# Altium integrated library Microchip Power Mgt CPU-System Supervisor.IntLib: 412 symbols (part 9 of 10)
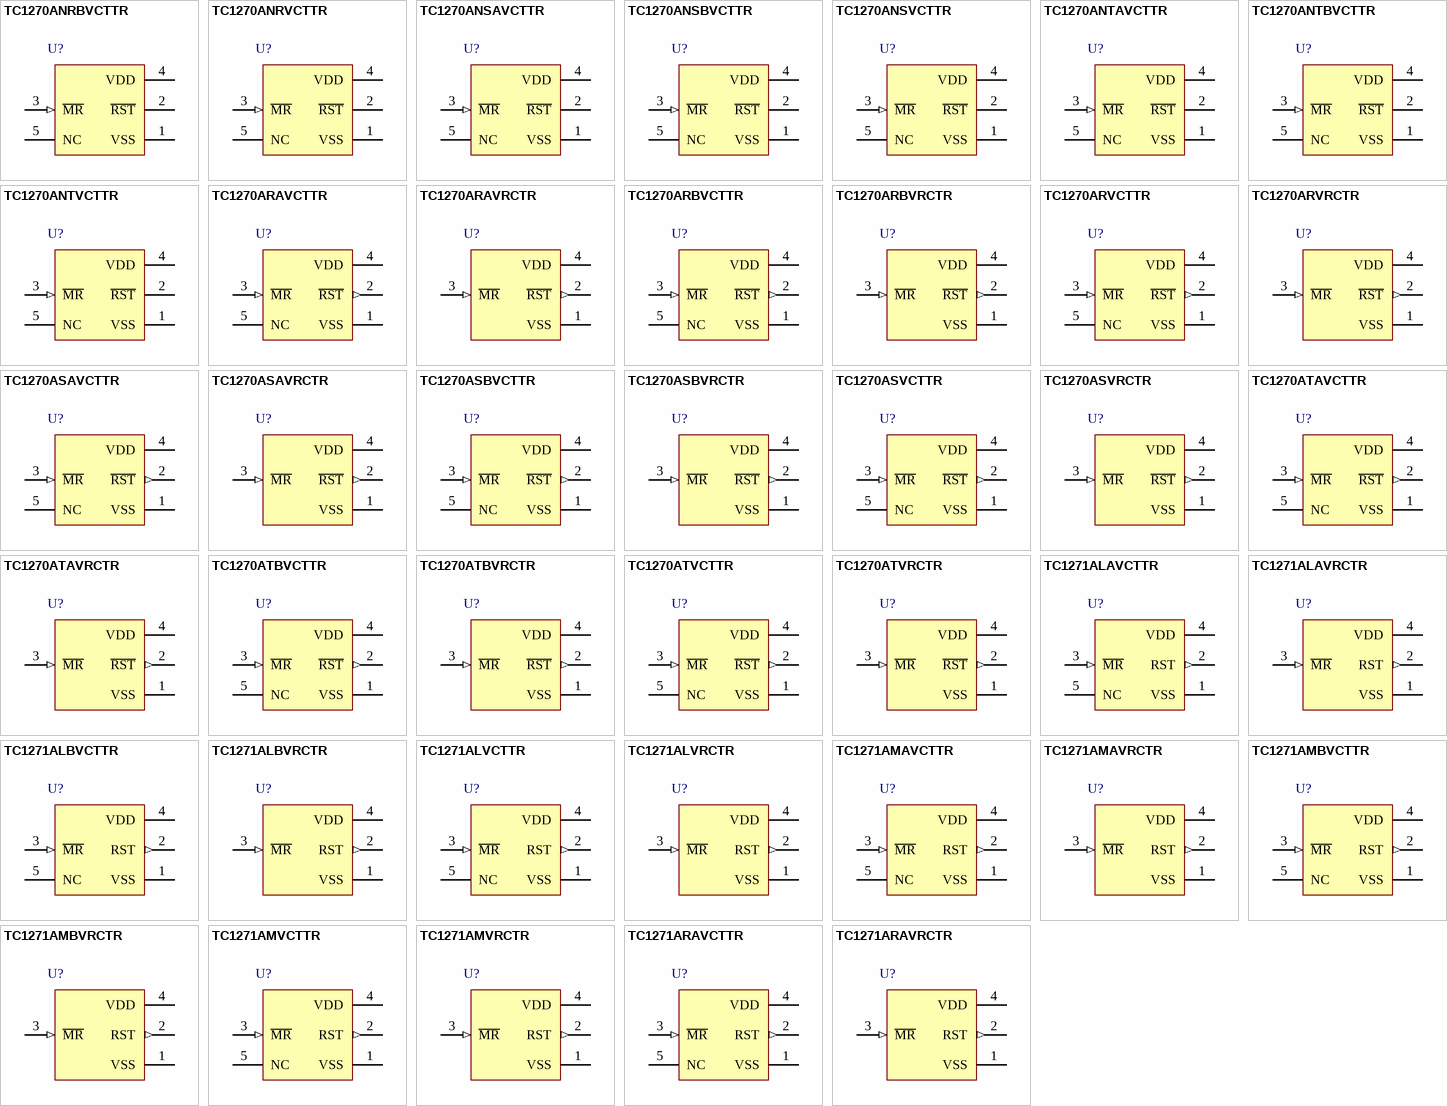
[diagram p18: symbols TC1270ANRBVCTTR to TC1271ARAVRCTR]

## TC1271ALAVRCTR
designator U?
Voltage Supervisor with Manual Reset Input, 4-Pin SOT-143, VTRIP:4.50V (min.) / 4.63V (typ.) / 4.75V (max.), Tape and Reel; Published: 29-Jan-2009; DatasheetVersion: revB, Jun-2007; PackageVersion: revBB, Aug-2009; PackageReference: SOT-143-RC4; Publisher: Altium Limited; PackageDescription: 4-Lead Plastic Small Outline Transistor (RC) [SOT-143]; Code_IPC: SOT143; ComponentLink1Description: Datasheet; ComponentLink1URL: http://ww1.microchip.com/downloads/en/DeviceDoc/22035b.pdf; ComponentLink2Description: Packaging Specification; ComponentLink2URL: http://www.microchip.com/stellent/groups/techpub_sg/documents/packagingspec/en012702.pdf; ComponentLink3Description: Microchip.com Home; ComponentLink3URL: http://www.microchip.com/
footprint SOT-143-RC4_N (SOT143, 4-Leads, Body 2.9x1.3mm, Pitch 1.9mm, Lead Span 2.4mm, IPC Medium Density)
footprint SOT-143-RC4_L (SOT143, 4-Leads, Body 2.9x1.3mm, Pitch 1.9mm, Lead Span 2.4mm, IPC High Density)
footprint SOT-143-RC4_M (SOT143, 4-Leads, Body 2.9x1.3mm, Pitch 1.9mm, Lead Span 2.4mm, IPC Low Density)
pins: 1 VSS (power), 2 RST (out), 3 ~{MR} (in), 4 VDD (power)

## TC1271ALBVCTTR
designator U?
Voltage Supervisor with Manual Reset Input, 5-Pin SOT-23, VTRIP:4.50V (min.) / 4.63V (typ.) / 4.75V (max.), Tape and Reel; Published: 29-Jan-2009; DatasheetVersion: revB, Jun-2007; PackageVersion: revBB, Aug-2009; PackageReference: SOT-23-CT5; Publisher: Altium Limited; PackageDescription: 5-Lead Plastic Small Outline Transistor (CT) [SOT-23]; Code_IPC: SOT23-5; ComponentLink1Description: Datasheet; ComponentLink1URL: http://ww1.microchip.com/downloads/en/DeviceDoc/22035b.pdf; ComponentLink2Description: Packaging Specification; ComponentLink2URL: http://www.microchip.com/stellent/groups/techpub_sg/documents/packagingspec/en012702.pdf; ComponentLink3Description: Microchip.com Home; ComponentLink3URL: http://www.microchip.com/
footprint SOT-23-CT5_N (SOT23, 5-Leads, Body 2.9x1.6mm, Pitch 0.95mm, Lead Span 2.7mm, IPC Medium Density)
footprint SOT-23-CT5_L (SOT23, 5-Leads, Body 2.9x1.6mm, Pitch 0.95mm, Lead Span 2.7mm, IPC High Density)
footprint SOT-23-CT5_M (SOT23, 5-Leads, Body 2.9x1.6mm, Pitch 0.95mm, Lead Span 2.7mm, IPC Low Density)
pins: 1 VSS (power), 2 RST (out), 3 ~{MR} (in), 4 VDD (power), 5 NC

## TC1271ALBVRCTR
designator U?
Voltage Supervisor with Manual Reset Input, 4-Pin SOT-143, VTRIP:4.50V (min.) / 4.63V (typ.) / 4.75V (max.), Tape and Reel; Published: 29-Jan-2009; DatasheetVersion: revB, Jun-2007; PackageVersion: revBB, Aug-2009; PackageReference: SOT-143-RC4; Publisher: Altium Limited; PackageDescription: 4-Lead Plastic Small Outline Transistor (RC) [SOT-143]; Code_IPC: SOT143; ComponentLink1Description: Datasheet; ComponentLink1URL: http://ww1.microchip.com/downloads/en/DeviceDoc/22035b.pdf; ComponentLink2Description: Packaging Specification; ComponentLink2URL: http://www.microchip.com/stellent/groups/techpub_sg/documents/packagingspec/en012702.pdf; ComponentLink3Description: Microchip.com Home; ComponentLink3URL: http://www.microchip.com/
footprint SOT-143-RC4_N (SOT143, 4-Leads, Body 2.9x1.3mm, Pitch 1.9mm, Lead Span 2.4mm, IPC Medium Density)
footprint SOT-143-RC4_L (SOT143, 4-Leads, Body 2.9x1.3mm, Pitch 1.9mm, Lead Span 2.4mm, IPC High Density)
footprint SOT-143-RC4_M (SOT143, 4-Leads, Body 2.9x1.3mm, Pitch 1.9mm, Lead Span 2.4mm, IPC Low Density)
pins: 1 VSS (power), 2 RST (out), 3 ~{MR} (in), 4 VDD (power)

## TC1271ALVCTTR
designator U?
Voltage Supervisor with Manual Reset Input, 5-Pin SOT-23, VTRIP:4.50V (min.) / 4.63V (typ.) / 4.75V (max.), Tape and Reel; Published: 29-Jan-2009; DatasheetVersion: revB, Jun-2007; PackageVersion: revBB, Aug-2009; PackageReference: SOT-23-CT5; Publisher: Altium Limited; PackageDescription: 5-Lead Plastic Small Outline Transistor (CT) [SOT-23]; Supplier 1: Digi-Key; Supplier Part Number 1: TC1271ALVCTTR-ND; Code_IPC: SOT23-5; ComponentLink1Description: Datasheet; ComponentLink1URL: http://ww1.microchip.com/downloads/en/DeviceDoc/22035b.pdf; ComponentLink2Description: Packaging Specification; ComponentLink2URL: http://www.microchip.com/stellent/groups/techpub_sg/documents/packagingspec/en012702.pdf; ComponentLink3Description: Microchip.com Home; ComponentLink3URL: http://www.microchip.com/
footprint SOT-23-CT5_N (SOT23, 5-Leads, Body 2.9x1.6mm, Pitch 0.95mm, Lead Span 2.7mm, IPC Medium Density)
footprint SOT-23-CT5_L (SOT23, 5-Leads, Body 2.9x1.6mm, Pitch 0.95mm, Lead Span 2.7mm, IPC High Density)
footprint SOT-23-CT5_M (SOT23, 5-Leads, Body 2.9x1.6mm, Pitch 0.95mm, Lead Span 2.7mm, IPC Low Density)
pins: 1 VSS (power), 2 RST (out), 3 ~{MR} (in), 4 VDD (power), 5 NC

## TC1271ALVRCTR
designator U?
Voltage Supervisor with Manual Reset Input, 4-Pin SOT-143, VTRIP:4.50V (min.) / 4.63V (typ.) / 4.75V (max.), Tape and Reel; Published: 29-Jan-2009; DatasheetVersion: revB, Jun-2007; PackageVersion: revBB, Aug-2009; PackageReference: SOT-143-RC4; Publisher: Altium Limited; PackageDescription: 4-Lead Plastic Small Outline Transistor (RC) [SOT-143]; Supplier 1: Digi-Key; Supplier Part Number 1: TC1271ALVRCTR-ND; Code_IPC: SOT143; ComponentLink1Description: Datasheet; ComponentLink1URL: http://ww1.microchip.com/downloads/en/DeviceDoc/22035b.pdf; ComponentLink2Description: Packaging Specification; ComponentLink2URL: http://www.microchip.com/stellent/groups/techpub_sg/documents/packagingspec/en012702.pdf; ComponentLink3Description: Microchip.com Home; ComponentLink3URL: http://www.microchip.com/
footprint SOT-143-RC4_N (SOT143, 4-Leads, Body 2.9x1.3mm, Pitch 1.9mm, Lead Span 2.4mm, IPC Medium Density)
footprint SOT-143-RC4_L (SOT143, 4-Leads, Body 2.9x1.3mm, Pitch 1.9mm, Lead Span 2.4mm, IPC High Density)
footprint SOT-143-RC4_M (SOT143, 4-Leads, Body 2.9x1.3mm, Pitch 1.9mm, Lead Span 2.4mm, IPC Low Density)
pins: 1 VSS (power), 2 RST (out), 3 ~{MR} (in), 4 VDD (power)

## TC1271AMAVCTTR
designator U?
Voltage Supervisor with Manual Reset Input, 5-Pin SOT-23, VTRIP:4.25V (min.) / 4.38V (typ.) / 4.50V (max.), Tape and Reel; Published: 29-Jan-2009; DatasheetVersion: revB, Jun-2007; PackageVersion: revBB, Aug-2009; PackageReference: SOT-23-CT5; Publisher: Altium Limited; PackageDescription: 5-Lead Plastic Small Outline Transistor (CT) [SOT-23]; Code_IPC: SOT23-5; ComponentLink1Description: Datasheet; ComponentLink1URL: http://ww1.microchip.com/downloads/en/DeviceDoc/22035b.pdf; ComponentLink2Description: Packaging Specification; ComponentLink2URL: http://www.microchip.com/stellent/groups/techpub_sg/documents/packagingspec/en012702.pdf; ComponentLink3Description: Microchip.com Home; ComponentLink3URL: http://www.microchip.com/
footprint SOT-23-CT5_N (SOT23, 5-Leads, Body 2.9x1.6mm, Pitch 0.95mm, Lead Span 2.7mm, IPC Medium Density)
footprint SOT-23-CT5_L (SOT23, 5-Leads, Body 2.9x1.6mm, Pitch 0.95mm, Lead Span 2.7mm, IPC High Density)
footprint SOT-23-CT5_M (SOT23, 5-Leads, Body 2.9x1.6mm, Pitch 0.95mm, Lead Span 2.7mm, IPC Low Density)
pins: 1 VSS (power), 2 RST (out), 3 ~{MR} (in), 4 VDD (power), 5 NC

## TC1271AMAVRCTR
designator U?
Voltage Supervisor with Manual Reset Input, 4-Pin SOT-143, VTRIP:4.25V (min.) / 4.38V (typ.) / 4.50V (max.), Tape and Reel; Published: 29-Jan-2009; DatasheetVersion: revB, Jun-2007; PackageVersion: revBB, Aug-2009; PackageReference: SOT-143-RC4; Publisher: Altium Limited; PackageDescription: 4-Lead Plastic Small Outline Transistor (RC) [SOT-143]; Code_IPC: SOT143; ComponentLink1Description: Datasheet; ComponentLink1URL: http://ww1.microchip.com/downloads/en/DeviceDoc/22035b.pdf; ComponentLink2Description: Packaging Specification; ComponentLink2URL: http://www.microchip.com/stellent/groups/techpub_sg/documents/packagingspec/en012702.pdf; ComponentLink3Description: Microchip.com Home; ComponentLink3URL: http://www.microchip.com/
footprint SOT-143-RC4_N (SOT143, 4-Leads, Body 2.9x1.3mm, Pitch 1.9mm, Lead Span 2.4mm, IPC Medium Density)
footprint SOT-143-RC4_L (SOT143, 4-Leads, Body 2.9x1.3mm, Pitch 1.9mm, Lead Span 2.4mm, IPC High Density)
footprint SOT-143-RC4_M (SOT143, 4-Leads, Body 2.9x1.3mm, Pitch 1.9mm, Lead Span 2.4mm, IPC Low Density)
pins: 1 VSS (power), 2 RST (out), 3 ~{MR} (in), 4 VDD (power)

## TC1271AMBVCTTR
designator U?
Voltage Supervisor with Manual Reset Input, 5-Pin SOT-23, VTRIP:4.25V (min.) / 4.38V (typ.) / 4.50V (max.), Tape and Reel; Published: 29-Jan-2009; DatasheetVersion: revB, Jun-2007; PackageVersion: revBB, Aug-2009; PackageReference: SOT-23-CT5; Publisher: Altium Limited; PackageDescription: 5-Lead Plastic Small Outline Transistor (CT) [SOT-23]; Code_IPC: SOT23-5; ComponentLink1Description: Datasheet; ComponentLink1URL: http://ww1.microchip.com/downloads/en/DeviceDoc/22035b.pdf; ComponentLink2Description: Packaging Specification; ComponentLink2URL: http://www.microchip.com/stellent/groups/techpub_sg/documents/packagingspec/en012702.pdf; ComponentLink3Description: Microchip.com Home; ComponentLink3URL: http://www.microchip.com/
footprint SOT-23-CT5_N (SOT23, 5-Leads, Body 2.9x1.6mm, Pitch 0.95mm, Lead Span 2.7mm, IPC Medium Density)
footprint SOT-23-CT5_L (SOT23, 5-Leads, Body 2.9x1.6mm, Pitch 0.95mm, Lead Span 2.7mm, IPC High Density)
footprint SOT-23-CT5_M (SOT23, 5-Leads, Body 2.9x1.6mm, Pitch 0.95mm, Lead Span 2.7mm, IPC Low Density)
pins: 1 VSS (power), 2 RST (out), 3 ~{MR} (in), 4 VDD (power), 5 NC

## TC1271AMBVRCTR
designator U?
Voltage Supervisor with Manual Reset Input, 4-Pin SOT-143, VTRIP:4.25V (min.) / 4.38V (typ.) / 4.50V (max.), Tape and Reel; Published: 29-Jan-2009; DatasheetVersion: revB, Jun-2007; PackageVersion: revBB, Aug-2009; PackageReference: SOT-143-RC4; Publisher: Altium Limited; PackageDescription: 4-Lead Plastic Small Outline Transistor (RC) [SOT-143]; Code_IPC: SOT143; ComponentLink1Description: Datasheet; ComponentLink1URL: http://ww1.microchip.com/downloads/en/DeviceDoc/22035b.pdf; ComponentLink2Description: Packaging Specification; ComponentLink2URL: http://www.microchip.com/stellent/groups/techpub_sg/documents/packagingspec/en012702.pdf; ComponentLink3Description: Microchip.com Home; ComponentLink3URL: http://www.microchip.com/
footprint SOT-143-RC4_N (SOT143, 4-Leads, Body 2.9x1.3mm, Pitch 1.9mm, Lead Span 2.4mm, IPC Medium Density)
footprint SOT-143-RC4_L (SOT143, 4-Leads, Body 2.9x1.3mm, Pitch 1.9mm, Lead Span 2.4mm, IPC High Density)
footprint SOT-143-RC4_M (SOT143, 4-Leads, Body 2.9x1.3mm, Pitch 1.9mm, Lead Span 2.4mm, IPC Low Density)
pins: 1 VSS (power), 2 RST (out), 3 ~{MR} (in), 4 VDD (power)

## TC1271AMVCTTR
designator U?
Voltage Supervisor with Manual Reset Input, 5-Pin SOT-23, VTRIP:4.25V (min.) / 4.38V (typ.) / 4.50V (max.), Tape and Reel; Published: 29-Jan-2009; DatasheetVersion: revB, Jun-2007; PackageVersion: revBB, Aug-2009; PackageReference: SOT-23-CT5; Publisher: Altium Limited; PackageDescription: 5-Lead Plastic Small Outline Transistor (CT) [SOT-23]; Supplier 1: Digi-Key; Supplier Part Number 1: TC1271AMVCTTR-ND; Code_IPC: SOT23-5; ComponentLink1Description: Datasheet; ComponentLink1URL: http://ww1.microchip.com/downloads/en/DeviceDoc/22035b.pdf; ComponentLink2Description: Packaging Specification; ComponentLink2URL: http://www.microchip.com/stellent/groups/techpub_sg/documents/packagingspec/en012702.pdf; ComponentLink3Description: Microchip.com Home; ComponentLink3URL: http://www.microchip.com/
footprint SOT-23-CT5_N (SOT23, 5-Leads, Body 2.9x1.6mm, Pitch 0.95mm, Lead Span 2.7mm, IPC Medium Density)
footprint SOT-23-CT5_L (SOT23, 5-Leads, Body 2.9x1.6mm, Pitch 0.95mm, Lead Span 2.7mm, IPC High Density)
footprint SOT-23-CT5_M (SOT23, 5-Leads, Body 2.9x1.6mm, Pitch 0.95mm, Lead Span 2.7mm, IPC Low Density)
pins: 1 VSS (power), 2 RST (out), 3 ~{MR} (in), 4 VDD (power), 5 NC

## TC1271AMVRCTR
designator U?
Voltage Supervisor with Manual Reset Input, 4-Pin SOT-143, VTRIP:4.25V (min.) / 4.38V (typ.) / 4.50V (max.), Tape and Reel; Published: 29-Jan-2009; DatasheetVersion: revB, Jun-2007; PackageVersion: revBB, Aug-2009; PackageReference: SOT-143-RC4; Publisher: Altium Limited; PackageDescription: 4-Lead Plastic Small Outline Transistor (RC) [SOT-143]; Supplier 1: Digi-Key; Supplier Part Number 1: TC1271AMVRCTR-ND; Code_IPC: SOT143; ComponentLink1Description: Datasheet; ComponentLink1URL: http://ww1.microchip.com/downloads/en/DeviceDoc/22035b.pdf; ComponentLink2Description: Packaging Specification; ComponentLink2URL: http://www.microchip.com/stellent/groups/techpub_sg/documents/packagingspec/en012702.pdf; ComponentLink3Description: Microchip.com Home; ComponentLink3URL: http://www.microchip.com/
footprint SOT-143-RC4_N (SOT143, 4-Leads, Body 2.9x1.3mm, Pitch 1.9mm, Lead Span 2.4mm, IPC Medium Density)
footprint SOT-143-RC4_L (SOT143, 4-Leads, Body 2.9x1.3mm, Pitch 1.9mm, Lead Span 2.4mm, IPC High Density)
footprint SOT-143-RC4_M (SOT143, 4-Leads, Body 2.9x1.3mm, Pitch 1.9mm, Lead Span 2.4mm, IPC Low Density)
pins: 1 VSS (power), 2 RST (out), 3 ~{MR} (in), 4 VDD (power)

## TC1271ARAVCTTR
designator U?
Voltage Supervisor with Manual Reset Input, 5-Pin SOT-23, VTRIP:2.55V (min.) / 2.63V (typ.) / 2.70V (max.), Tape and Reel; Published: 29-Jan-2009; DatasheetVersion: revB, Jun-2007; PackageVersion: revBB, Aug-2009; PackageReference: SOT-23-CT5; Publisher: Altium Limited; PackageDescription: 5-Lead Plastic Small Outline Transistor (CT) [SOT-23]; Code_IPC: SOT23-5; ComponentLink1Description: Datasheet; ComponentLink1URL: http://ww1.microchip.com/downloads/en/DeviceDoc/22035b.pdf; ComponentLink2Description: Packaging Specification; ComponentLink2URL: http://www.microchip.com/stellent/groups/techpub_sg/documents/packagingspec/en012702.pdf; ComponentLink3Description: Microchip.com Home; ComponentLink3URL: http://www.microchip.com/
footprint SOT-23-CT5_N (SOT23, 5-Leads, Body 2.9x1.6mm, Pitch 0.95mm, Lead Span 2.7mm, IPC Medium Density)
footprint SOT-23-CT5_L (SOT23, 5-Leads, Body 2.9x1.6mm, Pitch 0.95mm, Lead Span 2.7mm, IPC High Density)
footprint SOT-23-CT5_M (SOT23, 5-Leads, Body 2.9x1.6mm, Pitch 0.95mm, Lead Span 2.7mm, IPC Low Density)
pins: 1 VSS (power), 2 RST (out), 3 ~{MR} (in), 4 VDD (power), 5 NC

## TC1271ARAVRCTR
designator U?
Voltage Supervisor with Manual Reset Input, 4-Pin SOT-143, VTRIP:2.55V (min.) / 2.63V (typ.) / 2.70V (max.), Tape and Reel; Published: 29-Jan-2009; DatasheetVersion: revB, Jun-2007; PackageVersion: revBB, Aug-2009; PackageReference: SOT-143-RC4; Publisher: Altium Limited; PackageDescription: 4-Lead Plastic Small Outline Transistor (RC) [SOT-143]; Code_IPC: SOT143; ComponentLink1Description: Datasheet; ComponentLink1URL: http://ww1.microchip.com/downloads/en/DeviceDoc/22035b.pdf; ComponentLink2Description: Packaging Specification; ComponentLink2URL: http://www.microchip.com/stellent/groups/techpub_sg/documents/packagingspec/en012702.pdf; ComponentLink3Description: Microchip.com Home; ComponentLink3URL: http://www.microchip.com/
footprint SOT-143-RC4_N (SOT143, 4-Leads, Body 2.9x1.3mm, Pitch 1.9mm, Lead Span 2.4mm, IPC Medium Density)
footprint SOT-143-RC4_L (SOT143, 4-Leads, Body 2.9x1.3mm, Pitch 1.9mm, Lead Span 2.4mm, IPC High Density)
footprint SOT-143-RC4_M (SOT143, 4-Leads, Body 2.9x1.3mm, Pitch 1.9mm, Lead Span 2.4mm, IPC Low Density)
pins: 1 VSS (power), 2 RST (out), 3 ~{MR} (in), 4 VDD (power)

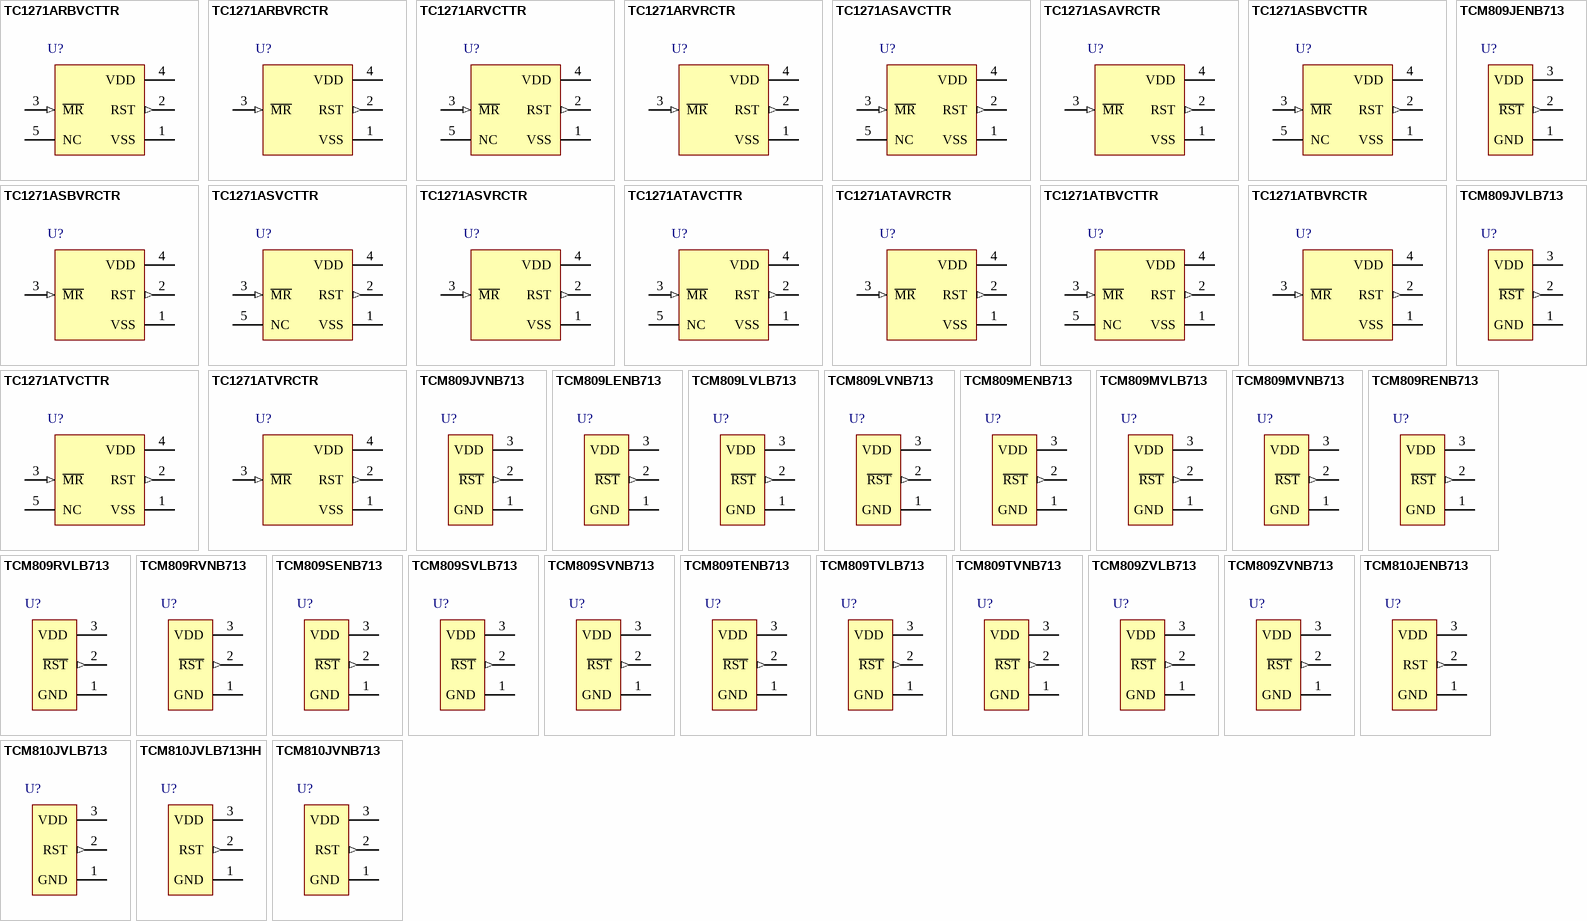
[diagram p9: symbols TC1271ARBVCTTR to TCM810JVNB713]

## TC1271ARBVCTTR
designator U?
Voltage Supervisor with Manual Reset Input, 5-Pin SOT-23, VTRIP:2.55V (min.) / 2.63V (typ.) / 2.70V (max.), Tape and Reel; Published: 29-Jan-2009; DatasheetVersion: revB, Jun-2007; PackageVersion: revBB, Aug-2009; PackageReference: SOT-23-CT5; Publisher: Altium Limited; PackageDescription: 5-Lead Plastic Small Outline Transistor (CT) [SOT-23]; Code_IPC: SOT23-5; ComponentLink1Description: Datasheet; ComponentLink1URL: http://ww1.microchip.com/downloads/en/DeviceDoc/22035b.pdf; ComponentLink2Description: Packaging Specification; ComponentLink2URL: http://www.microchip.com/stellent/groups/techpub_sg/documents/packagingspec/en012702.pdf; ComponentLink3Description: Microchip.com Home; ComponentLink3URL: http://www.microchip.com/
footprint SOT-23-CT5_N (SOT23, 5-Leads, Body 2.9x1.6mm, Pitch 0.95mm, Lead Span 2.7mm, IPC Medium Density)
footprint SOT-23-CT5_L (SOT23, 5-Leads, Body 2.9x1.6mm, Pitch 0.95mm, Lead Span 2.7mm, IPC High Density)
footprint SOT-23-CT5_M (SOT23, 5-Leads, Body 2.9x1.6mm, Pitch 0.95mm, Lead Span 2.7mm, IPC Low Density)
pins: 1 VSS (power), 2 RST (out), 3 ~{MR} (in), 4 VDD (power), 5 NC

## TC1271ARBVRCTR
designator U?
Voltage Supervisor with Manual Reset Input, 4-Pin SOT-143, VTRIP:2.55V (min.) / 2.63V (typ.) / 2.70V (max.), Tape and Reel; Published: 29-Jan-2009; DatasheetVersion: revB, Jun-2007; PackageVersion: revBB, Aug-2009; PackageReference: SOT-143-RC4; Publisher: Altium Limited; PackageDescription: 4-Lead Plastic Small Outline Transistor (RC) [SOT-143]; Code_IPC: SOT143; ComponentLink1Description: Datasheet; ComponentLink1URL: http://ww1.microchip.com/downloads/en/DeviceDoc/22035b.pdf; ComponentLink2Description: Packaging Specification; ComponentLink2URL: http://www.microchip.com/stellent/groups/techpub_sg/documents/packagingspec/en012702.pdf; ComponentLink3Description: Microchip.com Home; ComponentLink3URL: http://www.microchip.com/
footprint SOT-143-RC4_N (SOT143, 4-Leads, Body 2.9x1.3mm, Pitch 1.9mm, Lead Span 2.4mm, IPC Medium Density)
footprint SOT-143-RC4_L (SOT143, 4-Leads, Body 2.9x1.3mm, Pitch 1.9mm, Lead Span 2.4mm, IPC High Density)
footprint SOT-143-RC4_M (SOT143, 4-Leads, Body 2.9x1.3mm, Pitch 1.9mm, Lead Span 2.4mm, IPC Low Density)
pins: 1 VSS (power), 2 RST (out), 3 ~{MR} (in), 4 VDD (power)

## TC1271ARVCTTR
designator U?
Voltage Supervisor with Manual Reset Input, 5-Pin SOT-23, VTRIP:2.55V (min.) / 2.63V (typ.) / 2.70V (max.), Tape and Reel; Published: 29-Jan-2009; DatasheetVersion: revB, Jun-2007; PackageVersion: revBB, Aug-2009; PackageReference: SOT-23-CT5; Publisher: Altium Limited; PackageDescription: 5-Lead Plastic Small Outline Transistor (CT) [SOT-23]; Supplier 1: Digi-Key; Supplier Part Number 1: TC1271ARVCTTR-ND; Code_IPC: SOT23-5; ComponentLink1Description: Datasheet; ComponentLink1URL: http://ww1.microchip.com/downloads/en/DeviceDoc/22035b.pdf; ComponentLink2Description: Packaging Specification; ComponentLink2URL: http://www.microchip.com/stellent/groups/techpub_sg/documents/packagingspec/en012702.pdf; ComponentLink3Description: Microchip.com Home; ComponentLink3URL: http://www.microchip.com/
footprint SOT-23-CT5_N (SOT23, 5-Leads, Body 2.9x1.6mm, Pitch 0.95mm, Lead Span 2.7mm, IPC Medium Density)
footprint SOT-23-CT5_L (SOT23, 5-Leads, Body 2.9x1.6mm, Pitch 0.95mm, Lead Span 2.7mm, IPC High Density)
footprint SOT-23-CT5_M (SOT23, 5-Leads, Body 2.9x1.6mm, Pitch 0.95mm, Lead Span 2.7mm, IPC Low Density)
pins: 1 VSS (power), 2 RST (out), 3 ~{MR} (in), 4 VDD (power), 5 NC

## TC1271ARVRCTR
designator U?
Voltage Supervisor with Manual Reset Input, 4-Pin SOT-143, VTRIP:2.55V (min.) / 2.63V (typ.) / 2.70V (max.), Tape and Reel; Published: 29-Jan-2009; DatasheetVersion: revB, Jun-2007; PackageVersion: revBB, Aug-2009; PackageReference: SOT-143-RC4; Publisher: Altium Limited; PackageDescription: 4-Lead Plastic Small Outline Transistor (RC) [SOT-143]; Supplier 1: Digi-Key; Supplier Part Number 1: TC1271ARVRCTR-ND; Code_IPC: SOT143; ComponentLink1Description: Datasheet; ComponentLink1URL: http://ww1.microchip.com/downloads/en/DeviceDoc/22035b.pdf; ComponentLink2Description: Packaging Specification; ComponentLink2URL: http://www.microchip.com/stellent/groups/techpub_sg/documents/packagingspec/en012702.pdf; ComponentLink3Description: Microchip.com Home; ComponentLink3URL: http://www.microchip.com/
footprint SOT-143-RC4_N (SOT143, 4-Leads, Body 2.9x1.3mm, Pitch 1.9mm, Lead Span 2.4mm, IPC Medium Density)
footprint SOT-143-RC4_L (SOT143, 4-Leads, Body 2.9x1.3mm, Pitch 1.9mm, Lead Span 2.4mm, IPC High Density)
footprint SOT-143-RC4_M (SOT143, 4-Leads, Body 2.9x1.3mm, Pitch 1.9mm, Lead Span 2.4mm, IPC Low Density)
pins: 1 VSS (power), 2 RST (out), 3 ~{MR} (in), 4 VDD (power)

## TC1271ASAVCTTR
designator U?
Voltage Supervisor with Manual Reset Input, 5-Pin SOT-23, VTRIP:2.85V (min.) / 2.93V (typ.) / 3.00V (max.), Tape and Reel; Published: 29-Jan-2009; DatasheetVersion: revB, Jun-2007; PackageVersion: revBB, Aug-2009; PackageReference: SOT-23-CT5; Publisher: Altium Limited; PackageDescription: 5-Lead Plastic Small Outline Transistor (CT) [SOT-23]; Code_IPC: SOT23-5; ComponentLink1Description: Datasheet; ComponentLink1URL: http://ww1.microchip.com/downloads/en/DeviceDoc/22035b.pdf; ComponentLink2Description: Packaging Specification; ComponentLink2URL: http://www.microchip.com/stellent/groups/techpub_sg/documents/packagingspec/en012702.pdf; ComponentLink3Description: Microchip.com Home; ComponentLink3URL: http://www.microchip.com/
footprint SOT-23-CT5_N (SOT23, 5-Leads, Body 2.9x1.6mm, Pitch 0.95mm, Lead Span 2.7mm, IPC Medium Density)
footprint SOT-23-CT5_L (SOT23, 5-Leads, Body 2.9x1.6mm, Pitch 0.95mm, Lead Span 2.7mm, IPC High Density)
footprint SOT-23-CT5_M (SOT23, 5-Leads, Body 2.9x1.6mm, Pitch 0.95mm, Lead Span 2.7mm, IPC Low Density)
pins: 1 VSS (power), 2 RST (out), 3 ~{MR} (in), 4 VDD (power), 5 NC

## TC1271ASAVRCTR
designator U?
Voltage Supervisor with Manual Reset Input, 4-Pin SOT-143, VTRIP:2.85V (min.) / 2.93V (typ.) / 3.00V (max.), Tape and Reel; Published: 29-Jan-2009; DatasheetVersion: revB, Jun-2007; PackageVersion: revBB, Aug-2009; PackageReference: SOT-143-RC4; Publisher: Altium Limited; PackageDescription: 4-Lead Plastic Small Outline Transistor (RC) [SOT-143]; Code_IPC: SOT143; ComponentLink1Description: Datasheet; ComponentLink1URL: http://ww1.microchip.com/downloads/en/DeviceDoc/22035b.pdf; ComponentLink2Description: Packaging Specification; ComponentLink2URL: http://www.microchip.com/stellent/groups/techpub_sg/documents/packagingspec/en012702.pdf; ComponentLink3Description: Microchip.com Home; ComponentLink3URL: http://www.microchip.com/
footprint SOT-143-RC4_N (SOT143, 4-Leads, Body 2.9x1.3mm, Pitch 1.9mm, Lead Span 2.4mm, IPC Medium Density)
footprint SOT-143-RC4_L (SOT143, 4-Leads, Body 2.9x1.3mm, Pitch 1.9mm, Lead Span 2.4mm, IPC High Density)
footprint SOT-143-RC4_M (SOT143, 4-Leads, Body 2.9x1.3mm, Pitch 1.9mm, Lead Span 2.4mm, IPC Low Density)
pins: 1 VSS (power), 2 RST (out), 3 ~{MR} (in), 4 VDD (power)

## TC1271ASBVCTTR
designator U?
Voltage Supervisor with Manual Reset Input, 5-Pin SOT-23, VTRIP:2.85V (min.) / 2.93V (typ.) / 3.00V (max.), Tape and Reel; Published: 29-Jan-2009; DatasheetVersion: revB, Jun-2007; PackageVersion: revBB, Aug-2009; PackageReference: SOT-23-CT5; Publisher: Altium Limited; PackageDescription: 5-Lead Plastic Small Outline Transistor (CT) [SOT-23]; Code_IPC: SOT23-5; ComponentLink1Description: Datasheet; ComponentLink1URL: http://ww1.microchip.com/downloads/en/DeviceDoc/22035b.pdf; ComponentLink2Description: Packaging Specification; ComponentLink2URL: http://www.microchip.com/stellent/groups/techpub_sg/documents/packagingspec/en012702.pdf; ComponentLink3Description: Microchip.com Home; ComponentLink3URL: http://www.microchip.com/
footprint SOT-23-CT5_N (SOT23, 5-Leads, Body 2.9x1.6mm, Pitch 0.95mm, Lead Span 2.7mm, IPC Medium Density)
footprint SOT-23-CT5_L (SOT23, 5-Leads, Body 2.9x1.6mm, Pitch 0.95mm, Lead Span 2.7mm, IPC High Density)
footprint SOT-23-CT5_M (SOT23, 5-Leads, Body 2.9x1.6mm, Pitch 0.95mm, Lead Span 2.7mm, IPC Low Density)
pins: 1 VSS (power), 2 RST (out), 3 ~{MR} (in), 4 VDD (power), 5 NC

## TC1271ASBVRCTR
designator U?
Voltage Supervisor with Manual Reset Input, 4-Pin SOT-143, VTRIP:2.85V (min.) / 2.93V (typ.) / 3.00V (max.), Tape and Reel; Published: 29-Jan-2009; DatasheetVersion: revB, Jun-2007; PackageVersion: revBB, Aug-2009; PackageReference: SOT-143-RC4; Publisher: Altium Limited; PackageDescription: 4-Lead Plastic Small Outline Transistor (RC) [SOT-143]; Code_IPC: SOT143; ComponentLink1Description: Datasheet; ComponentLink1URL: http://ww1.microchip.com/downloads/en/DeviceDoc/22035b.pdf; ComponentLink2Description: Packaging Specification; ComponentLink2URL: http://www.microchip.com/stellent/groups/techpub_sg/documents/packagingspec/en012702.pdf; ComponentLink3Description: Microchip.com Home; ComponentLink3URL: http://www.microchip.com/
footprint SOT-143-RC4_N (SOT143, 4-Leads, Body 2.9x1.3mm, Pitch 1.9mm, Lead Span 2.4mm, IPC Medium Density)
footprint SOT-143-RC4_L (SOT143, 4-Leads, Body 2.9x1.3mm, Pitch 1.9mm, Lead Span 2.4mm, IPC High Density)
footprint SOT-143-RC4_M (SOT143, 4-Leads, Body 2.9x1.3mm, Pitch 1.9mm, Lead Span 2.4mm, IPC Low Density)
pins: 1 VSS (power), 2 RST (out), 3 ~{MR} (in), 4 VDD (power)

## TC1271ASVCTTR
designator U?
Voltage Supervisor with Manual Reset Input, 5-Pin SOT-23, VTRIP:2.85V (min.) / 2.93V (typ.) / 3.00V (max.), Tape and Reel; Published: 29-Jan-2009; DatasheetVersion: revB, Jun-2007; PackageVersion: revBB, Aug-2009; PackageReference: SOT-23-CT5; Publisher: Altium Limited; PackageDescription: 5-Lead Plastic Small Outline Transistor (CT) [SOT-23]; Supplier 1: Digi-Key; Supplier Part Number 1: TC1271ASVCTTR-ND; Code_IPC: SOT23-5; ComponentLink1Description: Datasheet; ComponentLink1URL: http://ww1.microchip.com/downloads/en/DeviceDoc/22035b.pdf; ComponentLink2Description: Packaging Specification; ComponentLink2URL: http://www.microchip.com/stellent/groups/techpub_sg/documents/packagingspec/en012702.pdf; ComponentLink3Description: Microchip.com Home; ComponentLink3URL: http://www.microchip.com/
footprint SOT-23-CT5_N (SOT23, 5-Leads, Body 2.9x1.6mm, Pitch 0.95mm, Lead Span 2.7mm, IPC Medium Density)
footprint SOT-23-CT5_L (SOT23, 5-Leads, Body 2.9x1.6mm, Pitch 0.95mm, Lead Span 2.7mm, IPC High Density)
footprint SOT-23-CT5_M (SOT23, 5-Leads, Body 2.9x1.6mm, Pitch 0.95mm, Lead Span 2.7mm, IPC Low Density)
pins: 1 VSS (power), 2 RST (out), 3 ~{MR} (in), 4 VDD (power), 5 NC

## TC1271ASVRCTR
designator U?
Voltage Supervisor with Manual Reset Input, 4-Pin SOT-143, VTRIP:2.85V (min.) / 2.93V (typ.) / 3.00V (max.), Tape and Reel; Published: 29-Jan-2009; DatasheetVersion: revB, Jun-2007; PackageVersion: revBB, Aug-2009; PackageReference: SOT-143-RC4; Publisher: Altium Limited; PackageDescription: 4-Lead Plastic Small Outline Transistor (RC) [SOT-143]; Supplier 1: Digi-Key; Supplier Part Number 1: TC1271ASVRCTR-ND; Code_IPC: SOT143; ComponentLink1Description: Datasheet; ComponentLink1URL: http://ww1.microchip.com/downloads/en/DeviceDoc/22035b.pdf; ComponentLink2Description: Packaging Specification; ComponentLink2URL: http://www.microchip.com/stellent/groups/techpub_sg/documents/packagingspec/en012702.pdf; ComponentLink3Description: Microchip.com Home; ComponentLink3URL: http://www.microchip.com/
footprint SOT-143-RC4_N (SOT143, 4-Leads, Body 2.9x1.3mm, Pitch 1.9mm, Lead Span 2.4mm, IPC Medium Density)
footprint SOT-143-RC4_L (SOT143, 4-Leads, Body 2.9x1.3mm, Pitch 1.9mm, Lead Span 2.4mm, IPC High Density)
footprint SOT-143-RC4_M (SOT143, 4-Leads, Body 2.9x1.3mm, Pitch 1.9mm, Lead Span 2.4mm, IPC Low Density)
pins: 1 VSS (power), 2 RST (out), 3 ~{MR} (in), 4 VDD (power)

## TC1271ATAVCTTR
designator U?
Voltage Supervisor with Manual Reset Input, 5-Pin SOT-23, VTRIP:3.00V (min.) / 3.08V (typ.) / 3.15V (max.), Tape and Reel; Published: 29-Jan-2009; DatasheetVersion: revB, Jun-2007; PackageVersion: revBB, Aug-2009; PackageReference: SOT-23-CT5; Publisher: Altium Limited; PackageDescription: 5-Lead Plastic Small Outline Transistor (CT) [SOT-23]; Code_IPC: SOT23-5; ComponentLink1Description: Datasheet; ComponentLink1URL: http://ww1.microchip.com/downloads/en/DeviceDoc/22035b.pdf; ComponentLink2Description: Packaging Specification; ComponentLink2URL: http://www.microchip.com/stellent/groups/techpub_sg/documents/packagingspec/en012702.pdf; ComponentLink3Description: Microchip.com Home; ComponentLink3URL: http://www.microchip.com/
footprint SOT-23-CT5_N (SOT23, 5-Leads, Body 2.9x1.6mm, Pitch 0.95mm, Lead Span 2.7mm, IPC Medium Density)
footprint SOT-23-CT5_L (SOT23, 5-Leads, Body 2.9x1.6mm, Pitch 0.95mm, Lead Span 2.7mm, IPC High Density)
footprint SOT-23-CT5_M (SOT23, 5-Leads, Body 2.9x1.6mm, Pitch 0.95mm, Lead Span 2.7mm, IPC Low Density)
pins: 1 VSS (power), 2 RST (out), 3 ~{MR} (in), 4 VDD (power), 5 NC

## TC1271ATAVRCTR
designator U?
Voltage Supervisor with Manual Reset Input, 4-Pin SOT-143, VTRIP:3.00V (min.) / 3.08V (typ.) / 3.15V (max.), Tape and Reel; Published: 29-Jan-2009; DatasheetVersion: revB, Jun-2007; PackageVersion: revBB, Aug-2009; PackageReference: SOT-143-RC4; Publisher: Altium Limited; PackageDescription: 4-Lead Plastic Small Outline Transistor (RC) [SOT-143]; Code_IPC: SOT143; ComponentLink1Description: Datasheet; ComponentLink1URL: http://ww1.microchip.com/downloads/en/DeviceDoc/22035b.pdf; ComponentLink2Description: Packaging Specification; ComponentLink2URL: http://www.microchip.com/stellent/groups/techpub_sg/documents/packagingspec/en012702.pdf; ComponentLink3Description: Microchip.com Home; ComponentLink3URL: http://www.microchip.com/
footprint SOT-143-RC4_N (SOT143, 4-Leads, Body 2.9x1.3mm, Pitch 1.9mm, Lead Span 2.4mm, IPC Medium Density)
footprint SOT-143-RC4_L (SOT143, 4-Leads, Body 2.9x1.3mm, Pitch 1.9mm, Lead Span 2.4mm, IPC High Density)
footprint SOT-143-RC4_M (SOT143, 4-Leads, Body 2.9x1.3mm, Pitch 1.9mm, Lead Span 2.4mm, IPC Low Density)
pins: 1 VSS (power), 2 RST (out), 3 ~{MR} (in), 4 VDD (power)

## TC1271ATBVCTTR
designator U?
Voltage Supervisor with Manual Reset Input, 5-Pin SOT-23, VTRIP:3.00V (min.) / 3.08V (typ.) / 3.15V (max.), Tape and Reel; Published: 29-Jan-2009; DatasheetVersion: revB, Jun-2007; PackageVersion: revBB, Aug-2009; PackageReference: SOT-23-CT5; Publisher: Altium Limited; PackageDescription: 5-Lead Plastic Small Outline Transistor (CT) [SOT-23]; Code_IPC: SOT23-5; ComponentLink1Description: Datasheet; ComponentLink1URL: http://ww1.microchip.com/downloads/en/DeviceDoc/22035b.pdf; ComponentLink2Description: Packaging Specification; ComponentLink2URL: http://www.microchip.com/stellent/groups/techpub_sg/documents/packagingspec/en012702.pdf; ComponentLink3Description: Microchip.com Home; ComponentLink3URL: http://www.microchip.com/
footprint SOT-23-CT5_N (SOT23, 5-Leads, Body 2.9x1.6mm, Pitch 0.95mm, Lead Span 2.7mm, IPC Medium Density)
footprint SOT-23-CT5_L (SOT23, 5-Leads, Body 2.9x1.6mm, Pitch 0.95mm, Lead Span 2.7mm, IPC High Density)
footprint SOT-23-CT5_M (SOT23, 5-Leads, Body 2.9x1.6mm, Pitch 0.95mm, Lead Span 2.7mm, IPC Low Density)
pins: 1 VSS (power), 2 RST (out), 3 ~{MR} (in), 4 VDD (power), 5 NC

## TC1271ATBVRCTR
designator U?
Voltage Supervisor with Manual Reset Input, 4-Pin SOT-143, VTRIP:3.00V (min.) / 3.08V (typ.) / 3.15V (max.), Tape and Reel; Published: 29-Jan-2009; DatasheetVersion: revB, Jun-2007; PackageVersion: revBB, Aug-2009; PackageReference: SOT-143-RC4; Publisher: Altium Limited; PackageDescription: 4-Lead Plastic Small Outline Transistor (RC) [SOT-143]; Code_IPC: SOT143; ComponentLink1Description: Datasheet; ComponentLink1URL: http://ww1.microchip.com/downloads/en/DeviceDoc/22035b.pdf; ComponentLink2Description: Packaging Specification; ComponentLink2URL: http://www.microchip.com/stellent/groups/techpub_sg/documents/packagingspec/en012702.pdf; ComponentLink3Description: Microchip.com Home; ComponentLink3URL: http://www.microchip.com/
footprint SOT-143-RC4_N (SOT143, 4-Leads, Body 2.9x1.3mm, Pitch 1.9mm, Lead Span 2.4mm, IPC Medium Density)
footprint SOT-143-RC4_L (SOT143, 4-Leads, Body 2.9x1.3mm, Pitch 1.9mm, Lead Span 2.4mm, IPC High Density)
footprint SOT-143-RC4_M (SOT143, 4-Leads, Body 2.9x1.3mm, Pitch 1.9mm, Lead Span 2.4mm, IPC Low Density)
pins: 1 VSS (power), 2 RST (out), 3 ~{MR} (in), 4 VDD (power)

## TC1271ATVCTTR
designator U?
Voltage Supervisor with Manual Reset Input, 5-Pin SOT-23, VTRIP:3.00V (min.) / 3.08V (typ.) / 3.15V (max.), Tape and Reel; Published: 29-Jan-2009; DatasheetVersion: revB, Jun-2007; PackageVersion: revBB, Aug-2009; PackageReference: SOT-23-CT5; Publisher: Altium Limited; PackageDescription: 5-Lead Plastic Small Outline Transistor (CT) [SOT-23]; Supplier 1: Digi-Key; Supplier Part Number 1: TC1271ATVCTTR-ND; Code_IPC: SOT23-5; ComponentLink1Description: Datasheet; ComponentLink1URL: http://ww1.microchip.com/downloads/en/DeviceDoc/22035b.pdf; ComponentLink2Description: Packaging Specification; ComponentLink2URL: http://www.microchip.com/stellent/groups/techpub_sg/documents/packagingspec/en012702.pdf; ComponentLink3Description: Microchip.com Home; ComponentLink3URL: http://www.microchip.com/
footprint SOT-23-CT5_N (SOT23, 5-Leads, Body 2.9x1.6mm, Pitch 0.95mm, Lead Span 2.7mm, IPC Medium Density)
footprint SOT-23-CT5_L (SOT23, 5-Leads, Body 2.9x1.6mm, Pitch 0.95mm, Lead Span 2.7mm, IPC High Density)
footprint SOT-23-CT5_M (SOT23, 5-Leads, Body 2.9x1.6mm, Pitch 0.95mm, Lead Span 2.7mm, IPC Low Density)
pins: 1 VSS (power), 2 RST (out), 3 ~{MR} (in), 4 VDD (power), 5 NC

## TC1271ATVRCTR
designator U?
Voltage Supervisor with Manual Reset Input, 4-Pin SOT-143, VTRIP:3.00V (min.) / 3.08V (typ.) / 3.15V (max.), Tape and Reel; Published: 29-Jan-2009; DatasheetVersion: revB, Jun-2007; PackageVersion: revBB, Aug-2009; PackageReference: SOT-143-RC4; Publisher: Altium Limited; PackageDescription: 4-Lead Plastic Small Outline Transistor (RC) [SOT-143]; Supplier 1: Digi-Key; Supplier Part Number 1: TC1271ATVRCTR-ND; Code_IPC: SOT143; ComponentLink1Description: Datasheet; ComponentLink1URL: http://ww1.microchip.com/downloads/en/DeviceDoc/22035b.pdf; ComponentLink2Description: Packaging Specification; ComponentLink2URL: http://www.microchip.com/stellent/groups/techpub_sg/documents/packagingspec/en012702.pdf; ComponentLink3Description: Microchip.com Home; ComponentLink3URL: http://www.microchip.com/
footprint SOT-143-RC4_N (SOT143, 4-Leads, Body 2.9x1.3mm, Pitch 1.9mm, Lead Span 2.4mm, IPC Medium Density)
footprint SOT-143-RC4_L (SOT143, 4-Leads, Body 2.9x1.3mm, Pitch 1.9mm, Lead Span 2.4mm, IPC High Density)
footprint SOT-143-RC4_M (SOT143, 4-Leads, Body 2.9x1.3mm, Pitch 1.9mm, Lead Span 2.4mm, IPC Low Density)
pins: 1 VSS (power), 2 RST (out), 3 ~{MR} (in), 4 VDD (power)

## TCM809JENB713
designator U?
3-Pin Microcontroller Reset Monitors, 3-Pin SOT-23, Extended Temperature; Published: 29-Jan-2009; DatasheetVersion: revD, Mar-2005; PackageVersion: revBB, Aug-2009; PackageReference: SOT-23-NB3; Publisher: Altium Limited; PackageDescription: 3-Lead Plastic Small Outline Transistor (NB) [SOT-23]; Supplier 1: Digi-Key; Supplier Part Number 1: TCM809JENB713-ND; Code_IPC: SOT23-3; ComponentLink1Description: Datasheet; ComponentLink1URL: http://ww1.microchip.com/downloads/en/DeviceDoc/21661d.pdf; ComponentLink2Description: Packaging Specification; ComponentLink2URL: http://www.microchip.com/stellent/groups/techpub_sg/documents/packagingspec/en012702.pdf; ComponentLink3Description: Microchip.com Home; ComponentLink3URL: http://www.microchip.com/
footprint SOT-23-NB3_N (SOT23, 3-Leads, Body 2.9x1.3mm, Pitch 0.95mm, Lead Span 2.4mm, IPC Medium Density)
footprint SOT-23-NB3_L (SOT23, 3-Leads, Body 2.9x1.3mm, Pitch 0.95mm, Lead Span 2.4mm, IPC High Density)
footprint SOT-23-NB3_M (SOT23, 3-Leads, Body 2.9x1.3mm, Pitch 0.95mm, Lead Span 2.4mm, IPC Low Density)
pins: 1 GND (power), 2 ~{RST} (out), 3 VDD (power)

## TCM809JVLB713
designator U?
3-Pin Microcontroller Reset Monitors, 3-Pin SC-70; Published: 29-Jan-2009; DatasheetVersion: revD, Mar-2005; PackageVersion: revBB, Aug-2009; PackageReference: SC70-LB3; Publisher: Altium Limited; PackageDescription: 3-Lead Plastic Small Outline Transistor (LB) [SC70]; Supplier 1: Digi-Key; Supplier Part Number 1: TCM809JVLB713TR-ND; Supplier 2: Digi-Key; Supplier Part Number 2: TCM809JVLB713CT-ND; Supplier 3: Digi-Key; Supplier Part Number 3: TCM809JVLB713DKR-ND; ComponentLink1Description: Datasheet; ComponentLink1URL: http://ww1.microchip.com/downloads/en/DeviceDoc/21661d.pdf; ComponentLink2Description: Packaging Specification; ComponentLink2URL: http://www.microchip.com/stellent/groups/techpub_sg/documents/packagingspec/en012702.pdf; ComponentLink3Description: Microchip.com Home; ComponentLink3URL: http://www.microchip.com/
footprint SC70-LB3_N (SOT323, 3-Leads, Body 2.0x1.3mm, Pitch 0.65mm, Lead Span 2.1mm, IPC Medium Density)
footprint SC70-LB3_L (SOT323, 3-Leads, Body 2.0x1.3mm, Pitch 0.65mm, Lead Span 2.1mm, IPC High Density)
footprint SC70-LB3_M (SOT323, 3-Leads, Body 2.0x1.3mm, Pitch 0.65mm, Lead Span 2.1mm, IPC Low Density)
pins: 1 GND (power), 2 ~{RST} (out), 3 VDD (power)

## TCM809JVNB713
designator U?
3-Pin Microcontroller Reset Monitors, 3-Pin SOT-23; Published: 29-Jan-2009; DatasheetVersion: revD, Mar-2005; PackageVersion: revBB, Aug-2009; PackageReference: SOT-23-NB3; Publisher: Altium Limited; PackageDescription: 3-Lead Plastic Small Outline Transistor (NB) [SOT-23]; Supplier 1: Digi-Key; Supplier Part Number 1: TCM809JVNB713TR-ND; Supplier 2: Digi-Key; Supplier Part Number 2: TCM809JVNB713CT-ND; Supplier 3: Digi-Key; Supplier Part Number 3: TCM809JVNB713DKR-ND; Code_IPC: SOT23-3; ComponentLink1Description: Datasheet; ComponentLink1URL: http://ww1.microchip.com/downloads/en/DeviceDoc/21661d.pdf; ComponentLink2Description: Packaging Specification; ComponentLink2URL: http://www.microchip.com/stellent/groups/techpub_sg/documents/packagingspec/en012702.pdf; ComponentLink3Description: Microchip.com Home; ComponentLink3URL: http://www.microchip.com/
footprint SOT-23-NB3_N (SOT23, 3-Leads, Body 2.9x1.3mm, Pitch 0.95mm, Lead Span 2.4mm, IPC Medium Density)
footprint SOT-23-NB3_L (SOT23, 3-Leads, Body 2.9x1.3mm, Pitch 0.95mm, Lead Span 2.4mm, IPC High Density)
footprint SOT-23-NB3_M (SOT23, 3-Leads, Body 2.9x1.3mm, Pitch 0.95mm, Lead Span 2.4mm, IPC Low Density)
pins: 1 GND (power), 2 ~{RST} (out), 3 VDD (power)

## TCM809LENB713
designator U?
3-Pin Microcontroller Reset Monitors, 3-Pin SOT-23, Extended Temperature; Published: 29-Jan-2009; DatasheetVersion: revD, Mar-2005; PackageVersion: revBB, Aug-2009; PackageReference: SOT-23-NB3; Publisher: Altium Limited; PackageDescription: 3-Lead Plastic Small Outline Transistor (NB) [SOT-23]; Supplier 1: Digi-Key; Supplier Part Number 1: TCM809LENB713TR-ND; Supplier 2: Digi-Key; Supplier Part Number 2: TCM809LENB713CT-ND; Supplier 3: Digi-Key; Supplier Part Number 3: TCM809LENB713DKR-ND; Supplier 4: Farnell; Supplier Part Number 4: 9762744; Code_IPC: SOT23-3; ComponentLink1Description: Datasheet; ComponentLink1URL: http://ww1.microchip.com/downloads/en/DeviceDoc/21661d.pdf; ComponentLink2Description: Packaging Specification; ComponentLink2URL: http://www.microchip.com/stellent/groups/techpub_sg/documents/packagingspec/en012702.pdf; ComponentLink3Description: Microchip.com Home; ComponentLink3URL: http://www.microchip.com/
footprint SOT-23-NB3_N (SOT23, 3-Leads, Body 2.9x1.3mm, Pitch 0.95mm, Lead Span 2.4mm, IPC Medium Density)
footprint SOT-23-NB3_L (SOT23, 3-Leads, Body 2.9x1.3mm, Pitch 0.95mm, Lead Span 2.4mm, IPC High Density)
footprint SOT-23-NB3_M (SOT23, 3-Leads, Body 2.9x1.3mm, Pitch 0.95mm, Lead Span 2.4mm, IPC Low Density)
pins: 1 GND (power), 2 ~{RST} (out), 3 VDD (power)

## TCM809LVLB713
designator U?
3-Pin Microcontroller Reset Monitors, 3-Pin SC-70; Published: 29-Jan-2009; DatasheetVersion: revD, Mar-2005; PackageVersion: revBB, Aug-2009; PackageReference: SC70-LB3; Publisher: Altium Limited; PackageDescription: 3-Lead Plastic Small Outline Transistor (LB) [SC70]; Supplier 1: Digi-Key; Supplier Part Number 1: TCM809LVLB713TR-ND; Supplier 2: Digi-Key; Supplier Part Number 2: TCM809LVLB713CT-ND; Supplier 3: Digi-Key; Supplier Part Number 3: TCM809LVLB713DKR-ND; Supplier 4: Farnell; Supplier Part Number 4: 3969060; ComponentLink1Description: Datasheet; ComponentLink1URL: http://ww1.microchip.com/downloads/en/DeviceDoc/21661d.pdf; ComponentLink2Description: Packaging Specification; ComponentLink2URL: http://www.microchip.com/stellent/groups/techpub_sg/documents/packagingspec/en012702.pdf; ComponentLink3Description: Microchip.com Home; ComponentLink3URL: http://www.microchip.com/
footprint SC70-LB3_N (SOT323, 3-Leads, Body 2.0x1.3mm, Pitch 0.65mm, Lead Span 2.1mm, IPC Medium Density)
footprint SC70-LB3_L (SOT323, 3-Leads, Body 2.0x1.3mm, Pitch 0.65mm, Lead Span 2.1mm, IPC High Density)
footprint SC70-LB3_M (SOT323, 3-Leads, Body 2.0x1.3mm, Pitch 0.65mm, Lead Span 2.1mm, IPC Low Density)
pins: 1 GND (power), 2 ~{RST} (out), 3 VDD (power)

## TCM809LVNB713
designator U?
3-Pin Microcontroller Reset Monitors, 3-Pin SOT-23; Published: 29-Jan-2009; DatasheetVersion: revD, Mar-2005; PackageVersion: revBB, Aug-2009; PackageReference: SOT-23-NB3; Publisher: Altium Limited; PackageDescription: 3-Lead Plastic Small Outline Transistor (NB) [SOT-23]; Supplier 1: Digi-Key; Supplier Part Number 1: TCM809LVNB713TR-ND; Supplier 2: Digi-Key; Supplier Part Number 2: TCM809LVNB713CT-ND; Supplier 3: Digi-Key; Supplier Part Number 3: TCM809LVNB713DKR-ND; Code_IPC: SOT23-3; ComponentLink1Description: Datasheet; ComponentLink1URL: http://ww1.microchip.com/downloads/en/DeviceDoc/21661d.pdf; ComponentLink2Description: Packaging Specification; ComponentLink2URL: http://www.microchip.com/stellent/groups/techpub_sg/documents/packagingspec/en012702.pdf; ComponentLink3Description: Microchip.com Home; ComponentLink3URL: http://www.microchip.com/
footprint SOT-23-NB3_N (SOT23, 3-Leads, Body 2.9x1.3mm, Pitch 0.95mm, Lead Span 2.4mm, IPC Medium Density)
footprint SOT-23-NB3_L (SOT23, 3-Leads, Body 2.9x1.3mm, Pitch 0.95mm, Lead Span 2.4mm, IPC High Density)
footprint SOT-23-NB3_M (SOT23, 3-Leads, Body 2.9x1.3mm, Pitch 0.95mm, Lead Span 2.4mm, IPC Low Density)
pins: 1 GND (power), 2 ~{RST} (out), 3 VDD (power)

## TCM809MENB713
designator U?
3-Pin Microcontroller Reset Monitors, 3-Pin SOT-23, Extended Temperature; Published: 29-Jan-2009; DatasheetVersion: revD, Mar-2005; PackageVersion: revBB, Aug-2009; PackageReference: SOT-23-NB3; Publisher: Altium Limited; PackageDescription: 3-Lead Plastic Small Outline Transistor (NB) [SOT-23]; Supplier 1: Digi-Key; Supplier Part Number 1: TCM809MENB713TR-ND; Supplier 2: Digi-Key; Supplier Part Number 2: TCM809MENB713CT-ND; Supplier 3: Digi-Key; Supplier Part Number 3: TCM809MENB713DKR-ND; Code_IPC: SOT23-3; ComponentLink1Description: Datasheet; ComponentLink1URL: http://ww1.microchip.com/downloads/en/DeviceDoc/21661d.pdf; ComponentLink2Description: Packaging Specification; ComponentLink2URL: http://www.microchip.com/stellent/groups/techpub_sg/documents/packagingspec/en012702.pdf; ComponentLink3Description: Microchip.com Home; ComponentLink3URL: http://www.microchip.com/
footprint SOT-23-NB3_N (SOT23, 3-Leads, Body 2.9x1.3mm, Pitch 0.95mm, Lead Span 2.4mm, IPC Medium Density)
footprint SOT-23-NB3_L (SOT23, 3-Leads, Body 2.9x1.3mm, Pitch 0.95mm, Lead Span 2.4mm, IPC High Density)
footprint SOT-23-NB3_M (SOT23, 3-Leads, Body 2.9x1.3mm, Pitch 0.95mm, Lead Span 2.4mm, IPC Low Density)
pins: 1 GND (power), 2 ~{RST} (out), 3 VDD (power)

## TCM809MVLB713
designator U?
3-Pin Microcontroller Reset Monitors, 3-Pin SC-70; Published: 29-Jan-2009; DatasheetVersion: revD, Mar-2005; PackageVersion: revBB, Aug-2009; PackageReference: SC70-LB3; Publisher: Altium Limited; PackageDescription: 3-Lead Plastic Small Outline Transistor (LB) [SC70]; Supplier 1: Digi-Key; Supplier Part Number 1: TCM809MVLB713TR-ND; Supplier 2: Digi-Key; Supplier Part Number 2: TCM809MVLB713CT-ND; Supplier 3: Digi-Key; Supplier Part Number 3: TCM809MVLB713DKR-ND; ComponentLink1Description: Datasheet; ComponentLink1URL: http://ww1.microchip.com/downloads/en/DeviceDoc/21661d.pdf; ComponentLink2Description: Packaging Specification; ComponentLink2URL: http://www.microchip.com/stellent/groups/techpub_sg/documents/packagingspec/en012702.pdf; ComponentLink3Description: Microchip.com Home; ComponentLink3URL: http://www.microchip.com/
footprint SC70-LB3_N (SOT323, 3-Leads, Body 2.0x1.3mm, Pitch 0.65mm, Lead Span 2.1mm, IPC Medium Density)
footprint SC70-LB3_L (SOT323, 3-Leads, Body 2.0x1.3mm, Pitch 0.65mm, Lead Span 2.1mm, IPC High Density)
footprint SC70-LB3_M (SOT323, 3-Leads, Body 2.0x1.3mm, Pitch 0.65mm, Lead Span 2.1mm, IPC Low Density)
pins: 1 GND (power), 2 ~{RST} (out), 3 VDD (power)

## TCM809MVNB713
designator U?
3-Pin Microcontroller Reset Monitors, 3-Pin SOT-23; Published: 29-Jan-2009; DatasheetVersion: revD, Mar-2005; PackageVersion: revBB, Aug-2009; PackageReference: SOT-23-NB3; Publisher: Altium Limited; PackageDescription: 3-Lead Plastic Small Outline Transistor (NB) [SOT-23]; Supplier 1: Digi-Key; Supplier Part Number 1: TCM809MVNB713TR-ND; Supplier 2: Digi-Key; Supplier Part Number 2: TCM809MVNB713CT-ND; Supplier 3: Digi-Key; Supplier Part Number 3: TCM809MVNB713DKR-ND; Code_IPC: SOT23-3; ComponentLink1Description: Datasheet; ComponentLink1URL: http://ww1.microchip.com/downloads/en/DeviceDoc/21661d.pdf; ComponentLink2Description: Packaging Specification; ComponentLink2URL: http://www.microchip.com/stellent/groups/techpub_sg/documents/packagingspec/en012702.pdf; ComponentLink3Description: Microchip.com Home; ComponentLink3URL: http://www.microchip.com/
footprint SOT-23-NB3_N (SOT23, 3-Leads, Body 2.9x1.3mm, Pitch 0.95mm, Lead Span 2.4mm, IPC Medium Density)
footprint SOT-23-NB3_L (SOT23, 3-Leads, Body 2.9x1.3mm, Pitch 0.95mm, Lead Span 2.4mm, IPC High Density)
footprint SOT-23-NB3_M (SOT23, 3-Leads, Body 2.9x1.3mm, Pitch 0.95mm, Lead Span 2.4mm, IPC Low Density)
pins: 1 GND (power), 2 ~{RST} (out), 3 VDD (power)

## TCM809RENB713
designator U?
3-Pin Microcontroller Reset Monitors, 3-Pin SOT-23, Extended Temperature; Published: 29-Jan-2009; DatasheetVersion: revD, Mar-2005; PackageVersion: revBB, Aug-2009; PackageReference: SOT-23-NB3; Publisher: Altium Limited; PackageDescription: 3-Lead Plastic Small Outline Transistor (NB) [SOT-23]; Supplier 1: Digi-Key; Supplier Part Number 1: TCM809RENB713TR-ND; Supplier 2: Digi-Key; Supplier Part Number 2: TCM809RENB713CT-ND; Supplier 3: Digi-Key; Supplier Part Number 3: TCM809RENB713DKR-ND; Supplier 4: Farnell; Supplier Part Number 4: 9762752; Supplier 5: Farnell; Supplier Part Number 5: 9771492; Code_IPC: SOT23-3; ComponentLink1Description: Datasheet; ComponentLink1URL: http://ww1.microchip.com/downloads/en/DeviceDoc/21661d.pdf; ComponentLink2Description: Packaging Specification; ComponentLink2URL: http://www.microchip.com/stellent/groups/techpub_sg/documents/packagingspec/en012702.pdf; ComponentLink3Description: Microchip.com Home; ComponentLink3URL: http://www.microchip.com/
footprint SOT-23-NB3_N (SOT23, 3-Leads, Body 2.9x1.3mm, Pitch 0.95mm, Lead Span 2.4mm, IPC Medium Density)
footprint SOT-23-NB3_L (SOT23, 3-Leads, Body 2.9x1.3mm, Pitch 0.95mm, Lead Span 2.4mm, IPC High Density)
footprint SOT-23-NB3_M (SOT23, 3-Leads, Body 2.9x1.3mm, Pitch 0.95mm, Lead Span 2.4mm, IPC Low Density)
pins: 1 GND (power), 2 ~{RST} (out), 3 VDD (power)

## TCM809RVLB713
designator U?
3-Pin Microcontroller Reset Monitors, 3-Pin SC-70; Published: 29-Jan-2009; DatasheetVersion: revD, Mar-2005; PackageVersion: revBB, Aug-2009; PackageReference: SC70-LB3; Publisher: Altium Limited; PackageDescription: 3-Lead Plastic Small Outline Transistor (LB) [SC70]; Supplier 1: Digi-Key; Supplier Part Number 1: TCM809RVLB713TR-ND; Supplier 2: Digi-Key; Supplier Part Number 2: TCM809RVLB713CT-ND; Supplier 3: Digi-Key; Supplier Part Number 3: TCM809RVLB713DKR-ND; Supplier 4: Farnell; Supplier Part Number 4: 1212922; ComponentLink1Description: Datasheet; ComponentLink1URL: http://ww1.microchip.com/downloads/en/DeviceDoc/21661d.pdf; ComponentLink2Description: Packaging Specification; ComponentLink2URL: http://www.microchip.com/stellent/groups/techpub_sg/documents/packagingspec/en012702.pdf; ComponentLink3Description: Microchip.com Home; ComponentLink3URL: http://www.microchip.com/
footprint SC70-LB3_N (SOT323, 3-Leads, Body 2.0x1.3mm, Pitch 0.65mm, Lead Span 2.1mm, IPC Medium Density)
footprint SC70-LB3_L (SOT323, 3-Leads, Body 2.0x1.3mm, Pitch 0.65mm, Lead Span 2.1mm, IPC High Density)
footprint SC70-LB3_M (SOT323, 3-Leads, Body 2.0x1.3mm, Pitch 0.65mm, Lead Span 2.1mm, IPC Low Density)
pins: 1 GND (power), 2 ~{RST} (out), 3 VDD (power)

## TCM809RVNB713
designator U?
3-Pin Microcontroller Reset Monitors, 3-Pin SOT-23; Published: 29-Jan-2009; DatasheetVersion: revD, Mar-2005; PackageVersion: revBB, Aug-2009; PackageReference: SOT-23-NB3; Publisher: Altium Limited; PackageDescription: 3-Lead Plastic Small Outline Transistor (NB) [SOT-23]; Supplier 1: Digi-Key; Supplier Part Number 1: TCM809RVNB713TR-ND; Supplier 2: Digi-Key; Supplier Part Number 2: TCM809RVNB713CT-ND; Supplier 3: Digi-Key; Supplier Part Number 3: TCM809RVNB713DKR-ND; Code_IPC: SOT23-3; ComponentLink1Description: Datasheet; ComponentLink1URL: http://ww1.microchip.com/downloads/en/DeviceDoc/21661d.pdf; ComponentLink2Description: Packaging Specification; ComponentLink2URL: http://www.microchip.com/stellent/groups/techpub_sg/documents/packagingspec/en012702.pdf; ComponentLink3Description: Microchip.com Home; ComponentLink3URL: http://www.microchip.com/
footprint SOT-23-NB3_N (SOT23, 3-Leads, Body 2.9x1.3mm, Pitch 0.95mm, Lead Span 2.4mm, IPC Medium Density)
footprint SOT-23-NB3_L (SOT23, 3-Leads, Body 2.9x1.3mm, Pitch 0.95mm, Lead Span 2.4mm, IPC High Density)
footprint SOT-23-NB3_M (SOT23, 3-Leads, Body 2.9x1.3mm, Pitch 0.95mm, Lead Span 2.4mm, IPC Low Density)
pins: 1 GND (power), 2 ~{RST} (out), 3 VDD (power)